# Altium footprint library CAP_1uF_1210.PcbLib: 1 footprints
Each footprint in its own frame and in the unit in brackets; x right, y up, seen from the top. Pads: shape width x height; smd on the part's side, far side on the other; paste and mask are expansions set on the pad; w line width, h text height; cw(c..) or ccw(c..) is an arc to the next point about the centre after c.
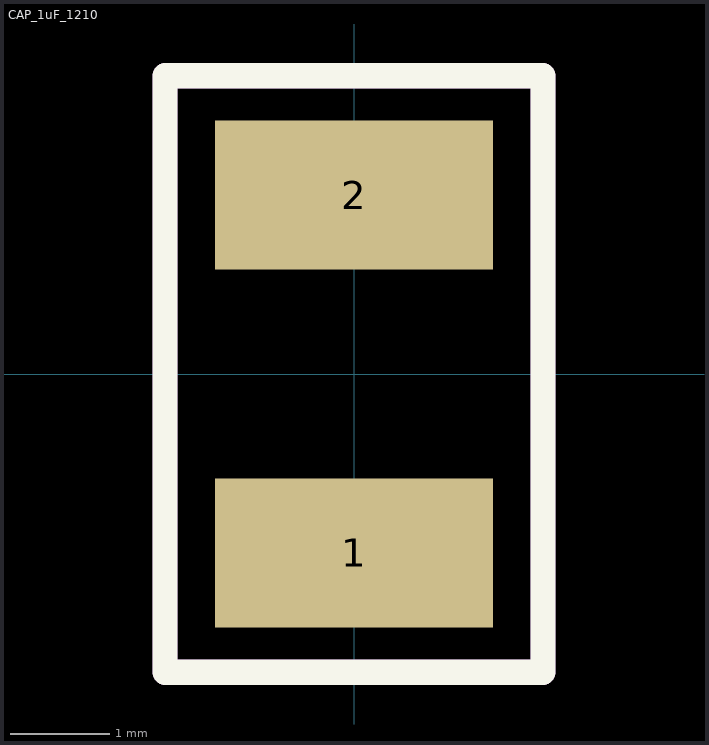
[diagram p0: the footprint, top view; thin cyan lines are the x and y axes]

## CAP_1uF_1210 [mm]
pads (2):
  rect 2.8x1.5 smd: 1(0,-1.8) 2(0,1.8)
Top Overlay:
  lines w0.254: -1.9,-3 1.9,-3 1.9,3 -1.9,3 -1.9,-3
Mechanical 1:
  lines w0.254: -1.9,-3 1.9,-3 1.9,3 -1.9,3 -1.9,-3
  text ".Designator" at -1.213,0 h0.54
3D body "CAP_1uF_1210.step": height 1.7, standoff 0, extent -1.4,-1.8 1.4,1.8